# Altium footprint library STB-LAZ.PcbLib: 1 footprints
Each footprint in its own frame and in the unit in brackets; x right, y up, seen from the top. Pads: shape width x height; smd on the part's side, far side on the other; paste and mask are expansions set on the pad; w line width, h text height; cw(c..) or ccw(c..) is an arc to the next point about the centre after c.
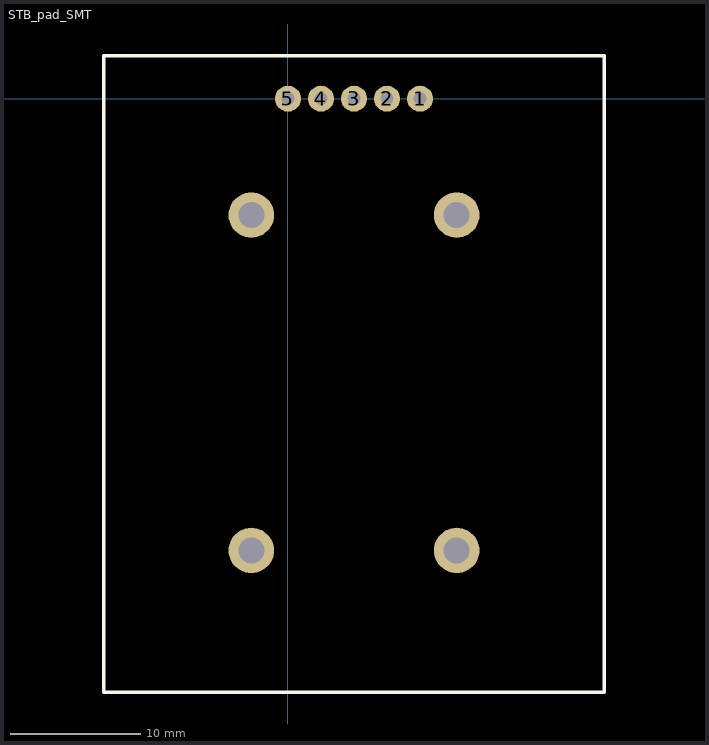
[diagram p0: the footprint, top view; thin cyan lines are the x and y axes]

## STB_pad_SMT [mm]
pads (9):
  round 2 hole 1: 1(10.16,0) 2(7.62,0) 3(5.08,0) 4(2.54,0) 5(0,0)
  round 3.5 hole 2: ""(-2.82,-34.75) ""(-2.82,-8.95) ""(12.98,-34.75) ""(12.98,-8.95)
Top Overlay:
  lines w0.254: -14.17,-45.65 24.33,-45.65 24.33,3.3 -14.17,3.3 -14.17,-45.65